# EAGLE library part GPRS-2686 (library Module)
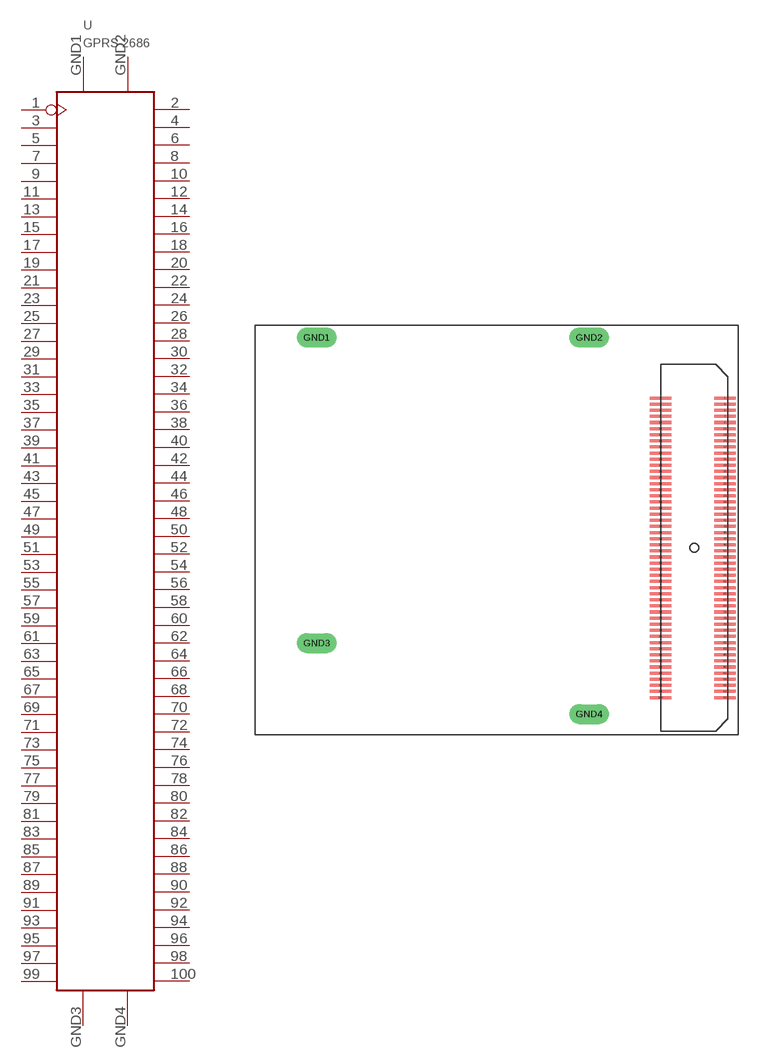
[diagram p2: symbol with the pads of 100P-0.5-39.5X33.5; footprint 100P-0.5-39.5X33.5]

Designator prefix U

## GPRS-2686  [100P-0.5-39.5X33.5]
1  P$1
2  P$2
3  P$3
4  P$4
5  P$5
6  P$6
7  P$7
8  P$8
9  P$9
10  P$10
11  P$11
12  P$12
13  P$13
14  P$14
15  P$15
16  P$16
17  P$17
18  P$18
19  P$19
20  P$20
21  P$21
22  P$22
23  P$23
24  P$24
25  P$25
26  P$26
27  P$27
28  P$28
29  P$29
30  P$30
31  P$31
32  P$32
33  P$33
34  P$34
35  P$35
36  P$36
37  P$37
38  P$38
39  P$39
40  P$40
41  P$41
42  P$42
43  P$43
44  P$44
45  P$45
46  P$46
47  P$47
48  P$48
49  P$49
50  P$50
51  P$51
52  P$52
53  P$53
54  P$54
55  P$55
56  P$56
57  P$57
58  P$58
59  P$59
60  P$60
61  P$61
62  P$62
63  P$63
64  P$64
65  P$65
66  P$66
67  P$67
68  P$68
69  P$69
70  P$70
71  P$71
72  P$72
73  P$73
74  P$74
75  P$75
76  P$76
77  P$77
78  P$78
79  P$79
80  P$80
81  P$81
82  P$82
83  P$83
84  P$84
85  P$85
86  P$86
87  P$87
88  P$88
89  P$89
90  P$90
91  P$91
92  P$92
93  P$93
94  P$94
95  P$95
96  P$96
97  P$97
98  P$98
99  P$99
100  P$100
GND1  GND1
GND2  GND2
GND3  GND3
GND4  GND4

## Footprint 100P-0.5-39.5X33.5 (pad centres in mm)
smd 1.75 x 0.25: 1 33.408,-4.95; 2 28.138,-4.95; 3 33.408,-5.45; 4 28.138,-5.45; 5 33.408,-5.95; 6 28.138,-5.95; 7 33.408,-6.45; 8 28.138,-6.45; 9 33.408,-6.95; 10 28.138,-6.95; 11 33.408,-7.45; 12 28.138,-7.45; 13 33.408,-7.95; 14 28.138,-7.95; 15 33.408,-8.45; 16 28.138,-8.45; 17 33.408,-8.95; 18 28.138,-8.95; 19 33.408,-9.45; 20 28.138,-9.45; 21 33.408,-9.95; 22 28.138,-9.95; 23 33.408,-10.45; 24 28.138,-10.45; 25 33.408,-10.95; 26 28.138,-10.95; 27 33.408,-11.45; 28 28.138,-11.45; 29 33.408,-11.95; 30 28.138,-11.95; 31 33.408,-12.45; 32 28.138,-12.45; 33 33.408,-12.95; 34 28.138,-12.95; 35 33.408,-13.45; 36 28.138,-13.45; 37 33.408,-13.95; 38 28.138,-13.95; 39 33.408,-14.45; 40 28.138,-14.45; 41 33.408,-14.95; 42 28.138,-14.95; 43 33.408,-15.45; 44 28.138,-15.45; 45 33.408,-15.95; 46 28.138,-15.95; 47 33.408,-16.45; 48 28.138,-16.45; 49 33.408,-16.95; 50 28.138,-16.95; 51 33.408,-17.45; 52 28.138,-17.45; 53 33.408,-17.95; 54 28.138,-17.95; 55 33.408,-18.45; 56 28.138,-18.45; 57 33.408,-18.95; 58 28.138,-18.95; 59 33.408,-19.45; 60 28.138,-19.45; 61 33.408,-19.95; 62 28.138,-19.95; 63 33.408,-20.45; 64 28.138,-20.45; 65 33.408,-20.95; 66 28.138,-20.95; 67 33.408,-21.45; 68 28.138,-21.45; 69 33.408,-21.95; 70 28.138,-21.95; 71 33.408,-22.45; 72 28.138,-22.45; 73 33.408,-22.95; 74 28.138,-22.95; 75 33.408,-23.45; 76 28.138,-23.45; 77 33.408,-23.95; 78 28.138,-23.95; 79 33.408,-24.45; 80 28.138,-24.45; 81 33.408,-24.95; 82 28.138,-24.95; 83 33.408,-25.45; 84 28.138,-25.45; 85 33.408,-25.95; 86 28.138,-25.95; 87 33.408,-26.45; 88 28.138,-26.45; 89 33.408,-26.95; 90 28.138,-26.95; 91 33.408,-27.45; 92 28.138,-27.45; 93 33.408,-27.95; 94 28.138,-27.95; 95 33.408,-28.45; 96 28.138,-28.45; 97 33.408,-28.95; 98 28.138,-28.95; 99 33.408,-29.45; 100 28.138,-29.45
drill 1.1 long: GND1 0,0; GND2 22.3,0; GND3 0,-25; GND4 22.3,-30.8